# EAGLE library part 7PIN_RELIMATE_CONNECTOR (library AB_RELIMATE_CONNECTORS)
RELIMATE CONNECTOR Created by Aadesh Borate PITCH = 2.54 mm
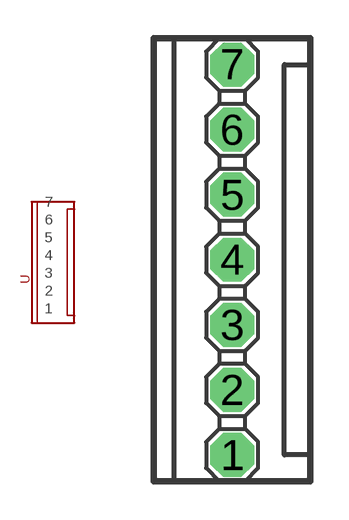
[diagram p3: symbol with the pads of 7PIN_RELIMATE_CONNECTOR; footprint 7PIN_RELIMATE_CONNECTOR]

Designator prefix -

## 7PIN_RELIMATE_CONNECTOR  [7PIN_RELIMATE_CONNECTOR]
1  1
2  2
3  3
4  4
5  5
6  6
7  7

## Footprint 7PIN_RELIMATE_CONNECTOR (pad centres in mm)
RELIMATE CONNECTOR Created by Aadesh Borate PITCH = 2.54 mm
drill 1.143 octagon: 1 -1.524,-7.62; 2 -1.524,-5.08; 3 -1.524,-2.54; 4 -1.524,0; 5 -1.524,2.54; 6 -1.524,5.08; 7 -1.524,7.62